# EAGLE library part FEATHER_MO_ADALOGGER (library GNSS-proto)
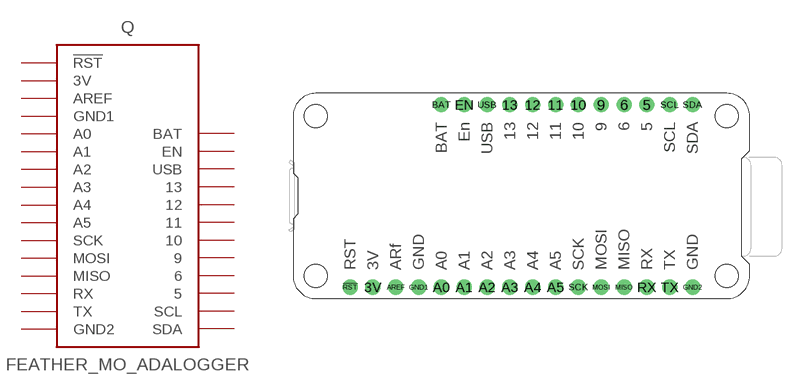
[diagram p0: symbol with the pads of FEATHER_M0_ADALOGGER; footprint FEATHER_M0_ADALOGGER]

Designator prefix Q

## FEATHER_MO_ADALOGGER  [FEATHER_M0_ADALOGGER]
3V  3V
5  5
6  6
9  9
10  10
11  11
12  12
13  13
!RST  !RST
A0  A0
A1  A1
A2  A2
A3  A3
A4  A4
A5  A5
AREF  AREF
BAT  BAT
EN  EN
GND1  GND1
GND2  GND2
MISO  MISO
MOSI  MOSI
RX  RX
SCK  SCK
SCL  SCL
SDA  SDA
TX  TX
USB  USB

## Footprint FEATHER_M0_ADALOGGER (pad centres in mm)
drill 1 pad 1.676: 3V 8.89,1.27; 5 39.37,21.59; 6 36.83,21.59; 9 34.29,21.59; 10 31.75,21.59; 11 29.21,21.59; 12 26.67,21.59; 13 24.13,21.59; !RST 6.35,1.27; A0 16.51,1.27; A1 19.05,1.27; A2 21.59,1.27; A3 24.13,1.27; A4 26.67,1.27; A5 29.21,1.27; AREF 11.43,1.27; BAT 16.51,21.59; EN 19.05,21.59; GND1 13.97,1.27; GND2 44.45,1.27; MISO 36.83,1.27; MOSI 34.29,1.27; RX 39.37,1.27; SCK 31.75,1.27; SCL 41.91,21.59; SDA 44.45,21.59; TX 41.91,1.27; USB 21.59,21.59
hole 2.54 at 48.26,20.32
hole 2.54 at 48.26,2.54
hole 2.54 at 2.54,20.32
hole 2.54 at 2.54,2.54